# Altium footprint library Capacitors.PcbLib: 70 footprints (part 3 of 5)
Each footprint in its own frame and in the unit in brackets; x right, y up, seen from the top. Pads: shape width x height; smd on the part's side, far side on the other; paste and mask are expansions set on the pad; w line width, h text height; cw(c..) or ccw(c..) is an arc to the next point about the centre after c.
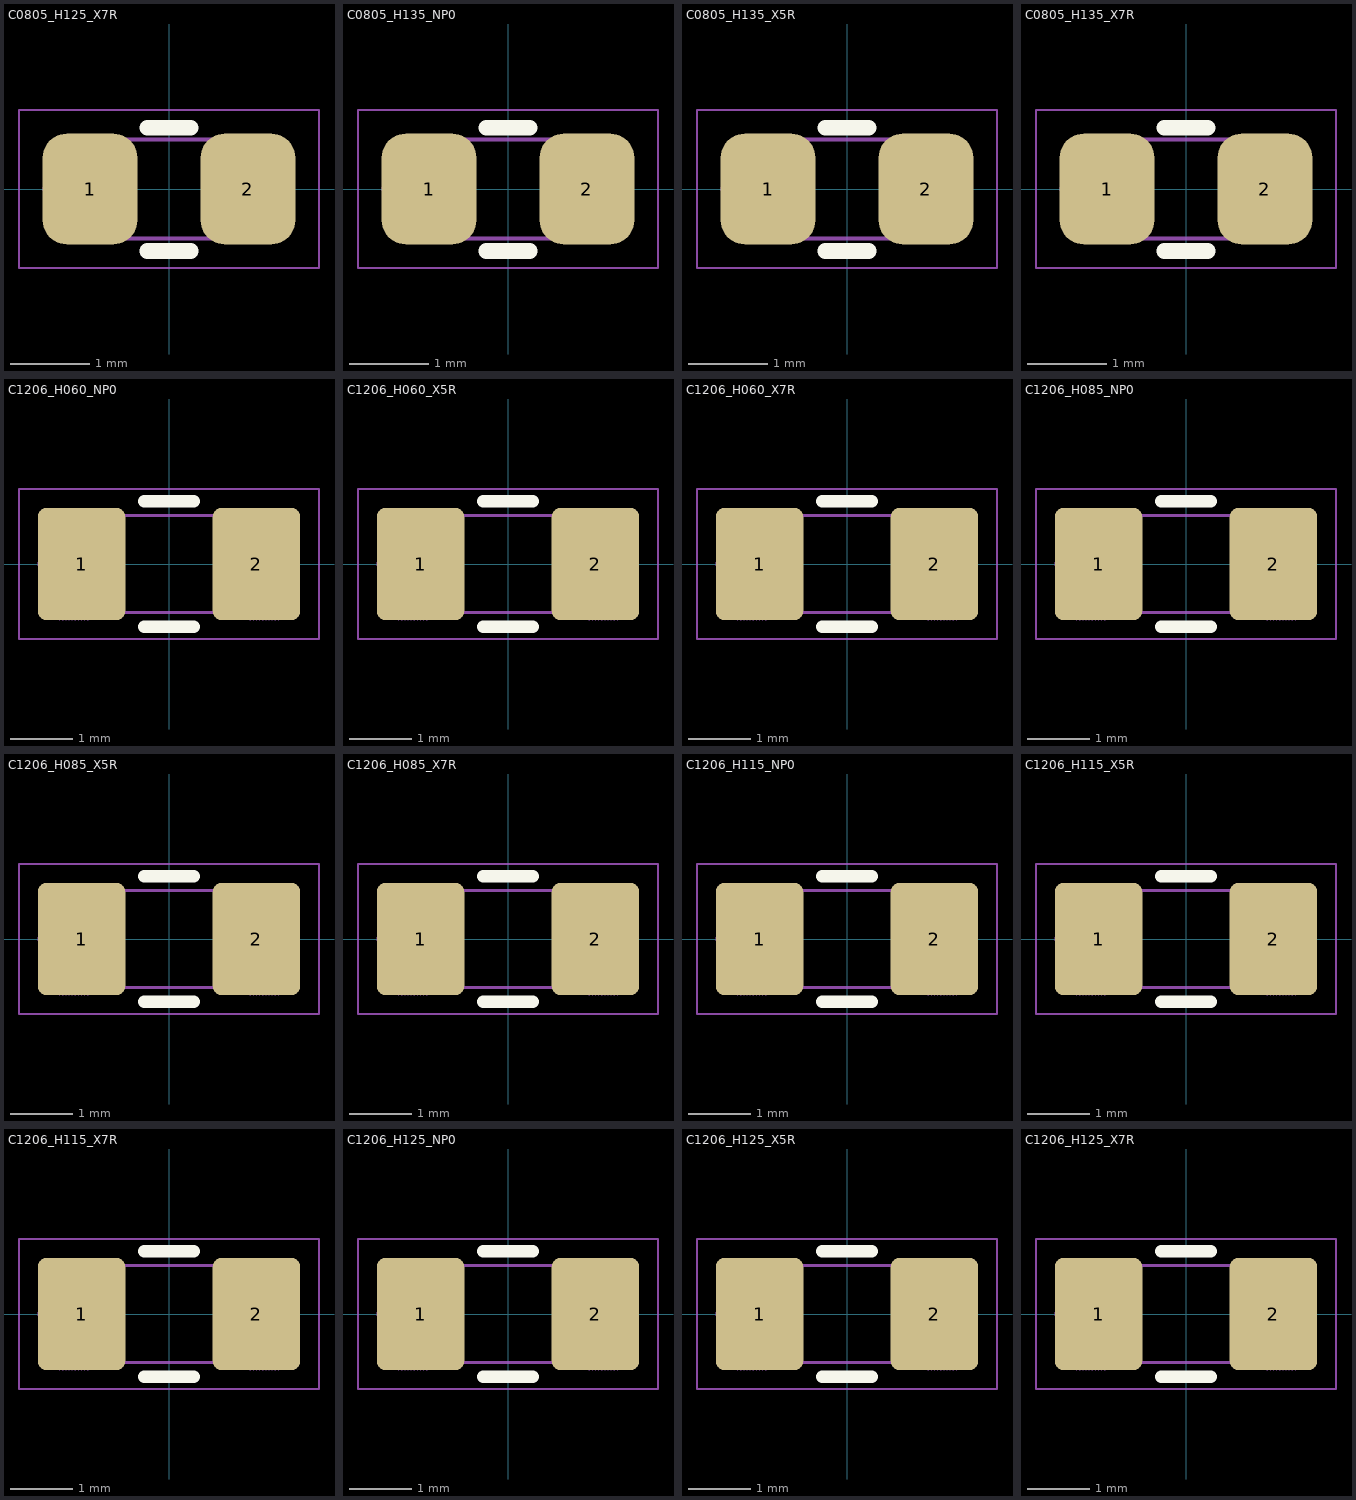
[diagram p2: the footprints below, top view; thin cyan lines are the x and y axes]

## C0805_H125_X7R [mm] "SMD080512X20MM"
height 1.25
pads (2):
  rrect50% 1.2x1.4 smd mask+0.05: 1(-1,0) 2(1,0)
Top Overlay:
  lines w0.2: -0.275,0.775 0.275,0.775 ; -0.275,-0.785 0.275,-0.785
Top Courtyard:
  lines w0.025: -1.9,-1 -1.9,1 1.9,1 1.9,-1 -1.9,-1
Top Assembly:
  lines w0.01: -1.59,-0.025 -1.59,0.025 ; 1.59,-0.025 1.59,0.025
  lines w0.05: -1.1,-0.65 -1.1,0.65 ; -1.05,-0.65 -1.05,0.65 ; -1,-0.65 -1,0.65 ; -0.95,-0.65 -0.95,0.65 ; -0.9,-0.65 -0.9,0.65 ; -0.85,-0.65 -0.85,0.65 ; -0.8,-0.65 -0.8,0.65 ; -0.75,-0.65 -0.75,0.65 ; -0.725,-0.624 cw(c-0.782,-0.605) -0.782,-0.665 -0.785,-0.665 -1.065,-0.665 cw(c-1.065,-0.605) -1.125,-0.605 -1.125,0.605 cw(c-1.065,0.605) -1.065,0.665 -0.785,0.665 -0.782,0.665 cw(c-0.782,0.605) -0.725,0.624 ; -0.725,0.565 -0.725,0.608 -0.725,0.625 ; 0.725,-0.565 0.725,-0.608 0.725,-0.625 ; 0.725,0.624 cw(c0.782,0.605) 0.782,0.665 0.785,0.665 1.065,0.665 cw(c1.065,0.605) 1.125,0.605 1.125,-0.605 cw(c1.065,-0.605) 1.065,-0.665 0.785,-0.665 0.782,-0.665 cw(c0.782,-0.605) 0.725,-0.624 ; 0.75,-0.65 0.75,0.65 ; 0.8,-0.65 0.8,0.65 ; 0.85,-0.65 0.85,0.65 ; 0.9,-0.65 0.9,0.65 ; 0.95,-0.65 0.95,0.65 ; 1,-0.65 1,0.65 ; 1.05,-0.65 1.05,0.65 ; 1.1,-0.65 1.1,0.65 ; -0.725,0.625 -0.725,-0.565 -0.725,-0.607 -0.725,-0.625 0.725,-0.624 ; -0.725,0.624 0.725,0.625 0.725,0.607 0.725,0.565 0.725,-0.625
  text ".Designator" at -2.252,-0.226 h1
3D body "C0805_H125_X7R.x_t": height 1.25, standoff 0, extent -1,-0.625 1,0.625

## C0805_H135_NP0 [mm] "SMD080512X20MM"
height 1.35
pads (2):
  rrect50% 1.2x1.4 smd mask+0.05: 1(-1,0) 2(1,0)
Top Overlay:
  lines w0.2: -0.275,0.775 0.275,0.775 ; -0.275,-0.785 0.275,-0.785
Top Courtyard:
  lines w0.025: -1.9,-1 -1.9,1 1.9,1 1.9,-1 -1.9,-1
Top Assembly:
  lines w0.01: -1.59,-0.025 -1.59,0.025 ; 1.59,-0.025 1.59,0.025
  lines w0.05: -1.1,-0.65 -1.1,0.65 ; -1.05,-0.65 -1.05,0.65 ; -1,-0.65 -1,0.65 ; -0.95,-0.65 -0.95,0.65 ; -0.9,-0.65 -0.9,0.65 ; -0.85,-0.65 -0.85,0.65 ; -0.8,-0.65 -0.8,0.65 ; -0.75,-0.65 -0.75,0.65 ; -0.725,-0.624 cw(c-0.782,-0.605) -0.782,-0.665 -0.785,-0.665 -1.065,-0.665 cw(c-1.065,-0.605) -1.125,-0.605 -1.125,0.605 cw(c-1.065,0.605) -1.065,0.665 -0.785,0.665 -0.782,0.665 cw(c-0.782,0.605) -0.725,0.624 ; -0.725,0.565 -0.725,0.608 -0.725,0.625 ; 0.725,-0.565 0.725,-0.608 0.725,-0.625 ; 0.725,0.624 cw(c0.782,0.605) 0.782,0.665 0.785,0.665 1.065,0.665 cw(c1.065,0.605) 1.125,0.605 1.125,-0.605 cw(c1.065,-0.605) 1.065,-0.665 0.785,-0.665 0.782,-0.665 cw(c0.782,-0.605) 0.725,-0.624 ; 0.75,-0.65 0.75,0.65 ; 0.8,-0.65 0.8,0.65 ; 0.85,-0.65 0.85,0.65 ; 0.9,-0.65 0.9,0.65 ; 0.95,-0.65 0.95,0.65 ; 1,-0.65 1,0.65 ; 1.05,-0.65 1.05,0.65 ; 1.1,-0.65 1.1,0.65 ; -0.725,0.624 0.725,0.625 0.725,0.607 0.725,0.565 0.725,-0.625 ; -0.725,0.625 -0.725,-0.565 -0.725,-0.607 -0.725,-0.625 0.725,-0.624
  text ".Designator" at -2.252,-0.226 h1
3D body "C0805_H135_NP0.x_t": height 1.35, standoff 0, extent -1,-0.625 1,0.625

## C0805_H135_X5R [mm] "SMD080512X20MM"
height 1.35
pads (2):
  rrect50% 1.2x1.4 smd mask+0.05: 1(-1,0) 2(1,0)
Top Overlay:
  lines w0.2: -0.275,0.775 0.275,0.775 ; -0.275,-0.785 0.275,-0.785
Top Courtyard:
  lines w0.025: -1.9,-1 1.9,-1 1.9,1 -1.9,1 -1.9,-1
Top Assembly:
  lines w0.01: -1.59,-0.025 -1.59,0.025 ; 1.59,-0.025 1.59,0.025
  lines w0.05: -1.1,-0.65 -1.1,0.65 ; -1.05,-0.65 -1.05,0.65 ; -1,-0.65 -1,0.65 ; -0.95,-0.65 -0.95,0.65 ; -0.9,-0.65 -0.9,0.65 ; -0.85,-0.65 -0.85,0.65 ; -0.8,-0.65 -0.8,0.65 ; -0.75,-0.65 -0.75,0.65 ; -0.725,-0.624 cw(c-0.782,-0.605) -0.782,-0.665 -0.785,-0.665 -1.065,-0.665 cw(c-1.065,-0.605) -1.125,-0.605 -1.125,0.605 cw(c-1.065,0.605) -1.065,0.665 -0.785,0.665 -0.782,0.665 cw(c-0.782,0.605) -0.725,0.624 ; -0.725,0.565 -0.725,0.608 -0.725,0.625 ; 0.725,-0.565 0.725,-0.608 0.725,-0.625 ; 0.725,0.624 cw(c0.782,0.605) 0.782,0.665 0.785,0.665 1.065,0.665 cw(c1.065,0.605) 1.125,0.605 1.125,-0.605 cw(c1.065,-0.605) 1.065,-0.665 0.785,-0.665 0.782,-0.665 cw(c0.782,-0.605) 0.725,-0.624 ; 0.75,-0.65 0.75,0.65 ; 0.8,-0.65 0.8,0.65 ; 0.85,-0.65 0.85,0.65 ; 0.9,-0.65 0.9,0.65 ; 0.95,-0.65 0.95,0.65 ; 1,-0.65 1,0.65 ; 1.05,-0.65 1.05,0.65 ; 1.1,-0.65 1.1,0.65 ; -0.725,0.625 -0.725,-0.565 -0.725,-0.607 -0.725,-0.625 0.725,-0.624 ; -0.725,0.624 0.725,0.625 0.725,0.607 0.725,0.565 0.725,-0.625
  text ".Designator" at -2.252,-0.226 h1
3D body "C0805_H135_X5R.x_t": height 1.35, standoff 0, extent -1,-0.625 1,0.625

## C0805_H135_X7R [mm] "SMD080512X20MM"
height 1.35
pads (2):
  rrect50% 1.2x1.4 smd mask+0.05: 1(-1,0) 2(1,0)
Top Overlay:
  lines w0.2: -0.275,0.775 0.275,0.775 ; -0.275,-0.785 0.275,-0.785
Top Courtyard:
  lines w0.025: -1.9,-1 -1.9,1 1.9,1 1.9,-1 -1.9,-1
Top Assembly:
  lines w0.01: -1.59,-0.025 -1.59,0.025 ; 1.59,-0.025 1.59,0.025
  lines w0.05: -1.1,-0.65 -1.1,0.65 ; -1.05,-0.65 -1.05,0.65 ; -1,-0.65 -1,0.65 ; -0.95,-0.65 -0.95,0.65 ; -0.9,-0.65 -0.9,0.65 ; -0.85,-0.65 -0.85,0.65 ; -0.8,-0.65 -0.8,0.65 ; -0.75,-0.65 -0.75,0.65 ; -0.725,-0.624 cw(c-0.782,-0.605) -0.782,-0.665 -0.785,-0.665 -1.065,-0.665 cw(c-1.065,-0.605) -1.125,-0.605 -1.125,0.605 cw(c-1.065,0.605) -1.065,0.665 -0.785,0.665 -0.782,0.665 cw(c-0.782,0.605) -0.725,0.624 ; -0.725,0.565 -0.725,0.608 -0.725,0.625 ; 0.725,-0.565 0.725,-0.608 0.725,-0.625 ; 0.725,0.624 cw(c0.782,0.605) 0.782,0.665 0.785,0.665 1.065,0.665 cw(c1.065,0.605) 1.125,0.605 1.125,-0.605 cw(c1.065,-0.605) 1.065,-0.665 0.785,-0.665 0.782,-0.665 cw(c0.782,-0.605) 0.725,-0.624 ; 0.75,-0.65 0.75,0.65 ; 0.8,-0.65 0.8,0.65 ; 0.85,-0.65 0.85,0.65 ; 0.9,-0.65 0.9,0.65 ; 0.95,-0.65 0.95,0.65 ; 1,-0.65 1,0.65 ; 1.05,-0.65 1.05,0.65 ; 1.1,-0.65 1.1,0.65 ; -0.725,0.625 -0.725,-0.565 -0.725,-0.607 -0.725,-0.625 0.725,-0.624 ; -0.725,0.624 0.725,0.625 0.725,0.607 0.725,0.565 0.725,-0.625
  text ".Designator" at -2.252,-0.226 h1
3D body "C0805_H135_X7R.x_t": height 1.35, standoff 0, extent -1,-0.625 1,0.625

## C1206_H060_NP0 [mm] "SMD120632X16MM"
height 0.6
pads (2):
  rrect20% 1.4x1.8 smd paste-3 mask+0.05: 1(-1.4,0) 2(1.4,0)
Top Overlay:
  lines w0.2: -0.4,-1 0.4,-1 ; -0.4,1 0.4,1
Top Paste:
  drawing of 8 lines, arcs and shapes, not listed
Top Courtyard:
  lines w0.025: -2.4,-1.2 -2.4,1.2 2.4,1.2 2.4,-1.2 -2.4,-1.2
Top Assembly:
  lines w0.01: -2.095,-0.025 -2.095,0.025 ; 2.095,-0.025 2.095,0.025
  lines w0.05: -1.8,-0.825 -1.8,0.825 ; -1.7,-0.875 -1.7,0.875 ; -1.65,-0.875 -1.65,0.875 ; -1.6,-0.875 -1.6,0.875 ; -1.55,-0.875 -1.55,0.875 ; -1.5,-0.875 -1.5,0.875 ; -1.45,-0.875 -1.45,0.875 ; -1.4,-0.875 -1.4,0.875 ; -1.35,-0.875 -1.35,0.875 ; -1.25,-0.825 -1.25,0.825 ; 1.25,-0.825 1.25,0.825 ; 1.35,-0.875 1.35,0.875 ; 1.4,-0.875 1.4,0.875 ; 1.45,-0.875 1.45,0.875 ; 1.5,-0.875 1.5,0.875 ; 1.55,-0.875 1.55,0.875 ; 1.6,-0.875 1.6,0.875 ; 1.65,-0.875 1.65,0.875 ; 1.7,-0.875 1.7,0.875 ; 1.8,-0.825 1.8,0.825 ; -1.85,-0.775 ccw(c-1.85,-0.775) -1.85,-0.775 ; -1.85,-0.775 ccw(c-1.75,-0.775) -1.75,-0.875 ; -1.85,-0.775 -1.85,0.775 ; -1.85,0.775 ccw(c-1.85,0.775) -1.85,0.775 ; -1.85,0.775 cw(c-1.75,0.775) -1.75,0.875 ; -1.75,-0.875 -1.75,0.875 ; -1.75,-0.875 -1.3,-0.875 ; -1.75,0.875 -1.3,0.875 ; -1.3,-0.875 ccw(c-1.3,-0.775) -1.2,-0.775 ; -1.3,-0.875 -1.3,0.875 ; -1.3,0.875 cw(c-1.3,0.775) -1.2,0.775 ; -1.2,-0.775 1.2,-0.775 ; -1.2,-0.775 -1.2,0.775 ; -1.2,0.775 1.2,0.775 ; 1.2,-0.775 ccw(c1.3,-0.775) 1.3,-0.875 ; 1.2,-0.775 1.2,0.775 ; 1.2,0.775 cw(c1.3,0.775) 1.3,0.875 ; 1.3,-0.875 1.3,0.875 ; 1.3,-0.875 1.75,-0.875 ; 1.3,-0.875 1.75,-0.875 ; 1.3,0.875 1.75,0.875 ; 1.3,0.875 1.75,0.875 ; 1.75,-0.875 ccw(c1.75,-0.775) 1.85,-0.775 ; 1.75,-0.875 1.75,0.875 ; 1.75,0.875 cw(c1.75,0.775) 1.85,0.775 ; 1.85,-0.775 ccw(c1.85,-0.775) 1.85,-0.775 ; 1.85,-0.775 1.85,0.775 ; 1.85,0.775 ccw(c1.85,0.775) 1.85,0.775 ; 0.45,0.775 ccw(c0.45,0.775) 0.45,0.775
  text ".Designator" at -3.378,-0.339 h1.5
3D body "C1206_H060_NP0.x_t": height 0.6, standoff 0, extent -1.6,-0.8 1.6,0.8

## C1206_H060_X5R [mm] "SMD120632X16MM"
height 0.6
pads (2):
  rrect20% 1.4x1.8 smd paste-3 mask+0.05: 1(-1.4,0) 2(1.4,0)
Top Overlay:
  lines w0.2: -0.4,-1 0.4,-1 ; -0.4,1 0.4,1
Top Paste:
  drawing of 8 lines, arcs and shapes, not listed
Top Courtyard:
  lines w0.025: -2.4,-1.2 -2.4,1.2 2.4,1.2 2.4,-1.2 -2.4,-1.2
Top Assembly:
  lines w0.01: -2.095,-0.025 -2.095,0.025 ; 2.095,-0.025 2.095,0.025
  lines w0.05: -1.8,-0.825 -1.8,0.825 ; -1.7,-0.875 -1.7,0.875 ; -1.65,-0.875 -1.65,0.875 ; -1.6,-0.875 -1.6,0.875 ; -1.55,-0.875 -1.55,0.875 ; -1.5,-0.875 -1.5,0.875 ; -1.45,-0.875 -1.45,0.875 ; -1.4,-0.875 -1.4,0.875 ; -1.35,-0.875 -1.35,0.875 ; -1.25,-0.825 -1.25,0.825 ; 1.25,-0.825 1.25,0.825 ; 1.35,-0.875 1.35,0.875 ; 1.4,-0.875 1.4,0.875 ; 1.45,-0.875 1.45,0.875 ; 1.5,-0.875 1.5,0.875 ; 1.55,-0.875 1.55,0.875 ; 1.6,-0.875 1.6,0.875 ; 1.65,-0.875 1.65,0.875 ; 1.7,-0.875 1.7,0.875 ; 1.8,-0.825 1.8,0.825 ; -1.85,-0.775 ccw(c-1.85,-0.775) -1.85,-0.775 ; -1.85,-0.775 ccw(c-1.75,-0.775) -1.75,-0.875 ; -1.85,-0.775 -1.85,0.775 ; -1.85,0.775 ccw(c-1.85,0.775) -1.85,0.775 ; -1.85,0.775 cw(c-1.75,0.775) -1.75,0.875 ; -1.75,-0.875 -1.75,0.875 ; -1.75,-0.875 -1.3,-0.875 ; -1.75,0.875 -1.3,0.875 ; -1.3,-0.875 ccw(c-1.3,-0.775) -1.2,-0.775 ; -1.3,-0.875 -1.3,0.875 ; -1.3,0.875 cw(c-1.3,0.775) -1.2,0.775 ; -1.2,-0.775 1.2,-0.775 ; -1.2,-0.775 -1.2,0.775 ; -1.2,0.775 1.2,0.775 ; 1.2,-0.775 ccw(c1.3,-0.775) 1.3,-0.875 ; 1.2,-0.775 1.2,0.775 ; 1.2,0.775 cw(c1.3,0.775) 1.3,0.875 ; 1.3,-0.875 1.3,0.875 ; 1.3,-0.875 1.75,-0.875 ; 1.3,-0.875 1.75,-0.875 ; 1.3,0.875 1.75,0.875 ; 1.3,0.875 1.75,0.875 ; 1.75,-0.875 ccw(c1.75,-0.775) 1.85,-0.775 ; 1.75,-0.875 1.75,0.875 ; 1.75,0.875 cw(c1.75,0.775) 1.85,0.775 ; 1.85,-0.775 ccw(c1.85,-0.775) 1.85,-0.775 ; 1.85,-0.775 1.85,0.775 ; 1.85,0.775 ccw(c1.85,0.775) 1.85,0.775 ; 0.45,0.775 ccw(c0.45,0.775) 0.45,0.775
  text ".Designator" at -3.378,-0.339 h1.5
3D body "C1206_H060_X5R.x_t": height 0.6, standoff 0, extent -1.6,-0.8 1.6,0.8

## C1206_H060_X7R [mm] "SMD120632X16MM"
height 0.6
pads (2):
  rrect20% 1.4x1.8 smd paste-3 mask+0.05: 1(-1.4,0) 2(1.4,0)
Top Overlay:
  lines w0.2: -0.4,-1 0.4,-1 ; -0.4,1 0.4,1
Top Paste:
  drawing of 8 lines, arcs and shapes, not listed
Top Courtyard:
  lines w0.025: -2.4,-1.2 -2.4,1.2 2.4,1.2 2.4,-1.2 -2.4,-1.2
Top Assembly:
  lines w0.01: -2.095,-0.025 -2.095,0.025 ; 2.095,-0.025 2.095,0.025
  lines w0.05: -1.8,-0.825 -1.8,0.825 ; -1.7,-0.875 -1.7,0.875 ; -1.65,-0.875 -1.65,0.875 ; -1.6,-0.875 -1.6,0.875 ; -1.55,-0.875 -1.55,0.875 ; -1.5,-0.875 -1.5,0.875 ; -1.45,-0.875 -1.45,0.875 ; -1.4,-0.875 -1.4,0.875 ; -1.35,-0.875 -1.35,0.875 ; -1.25,-0.825 -1.25,0.825 ; 1.25,-0.825 1.25,0.825 ; 1.35,-0.875 1.35,0.875 ; 1.4,-0.875 1.4,0.875 ; 1.45,-0.875 1.45,0.875 ; 1.5,-0.875 1.5,0.875 ; 1.55,-0.875 1.55,0.875 ; 1.6,-0.875 1.6,0.875 ; 1.65,-0.875 1.65,0.875 ; 1.7,-0.875 1.7,0.875 ; 1.8,-0.825 1.8,0.825 ; -1.85,-0.775 ccw(c-1.85,-0.775) -1.85,-0.775 ; -1.85,-0.775 ccw(c-1.75,-0.775) -1.75,-0.875 ; -1.85,-0.775 -1.85,0.775 ; -1.85,0.775 ccw(c-1.85,0.775) -1.85,0.775 ; -1.85,0.775 cw(c-1.75,0.775) -1.75,0.875 ; -1.75,-0.875 -1.75,0.875 ; -1.75,-0.875 -1.3,-0.875 ; -1.75,0.875 -1.3,0.875 ; -1.3,-0.875 ccw(c-1.3,-0.775) -1.2,-0.775 ; -1.3,-0.875 -1.3,0.875 ; -1.3,0.875 cw(c-1.3,0.775) -1.2,0.775 ; -1.2,-0.775 1.2,-0.775 ; -1.2,-0.775 -1.2,0.775 ; -1.2,0.775 1.2,0.775 ; 1.2,-0.775 ccw(c1.3,-0.775) 1.3,-0.875 ; 1.2,-0.775 1.2,0.775 ; 1.2,0.775 cw(c1.3,0.775) 1.3,0.875 ; 1.3,-0.875 1.3,0.875 ; 1.3,-0.875 1.75,-0.875 ; 1.3,-0.875 1.75,-0.875 ; 1.3,0.875 1.75,0.875 ; 1.3,0.875 1.75,0.875 ; 1.75,-0.875 ccw(c1.75,-0.775) 1.85,-0.775 ; 1.75,-0.875 1.75,0.875 ; 1.75,0.875 cw(c1.75,0.775) 1.85,0.775 ; 1.85,-0.775 ccw(c1.85,-0.775) 1.85,-0.775 ; 1.85,-0.775 1.85,0.775 ; 1.85,0.775 ccw(c1.85,0.775) 1.85,0.775 ; 0.45,0.775 ccw(c0.45,0.775) 0.45,0.775
  text ".Designator" at -3.378,-0.339 h1.5
3D body "C1206_H060_X7R.x_t": height 0.6, standoff 0, extent -1.6,-0.8 1.6,0.8

## C1206_H085_NP0 [mm] "SMD120632X16MM"
height 0.85
pads (2):
  rrect20% 1.4x1.8 smd paste-3 mask+0.05: 1(-1.4,0) 2(1.4,0)
Top Overlay:
  lines w0.2: -0.4,-1 0.4,-1 ; -0.4,1 0.4,1
Top Paste:
  drawing of 8 lines, arcs and shapes, not listed
Top Courtyard:
  lines w0.025: -2.4,-1.2 2.4,-1.2 2.4,1.2 -2.4,1.2 -2.4,-1.2
Top Assembly:
  lines w0.01: -2.095,-0.025 -2.095,0.025 ; 2.095,-0.025 2.095,0.025
  lines w0.05: -1.8,-0.825 -1.8,0.825 ; -1.7,-0.875 -1.7,0.875 ; -1.65,-0.875 -1.65,0.875 ; -1.6,-0.875 -1.6,0.875 ; -1.55,-0.875 -1.55,0.875 ; -1.5,-0.875 -1.5,0.875 ; -1.45,-0.875 -1.45,0.875 ; -1.4,-0.875 -1.4,0.875 ; -1.35,-0.875 -1.35,0.875 ; -1.25,-0.825 -1.25,0.825 ; 1.25,-0.825 1.25,0.825 ; 1.35,-0.875 1.35,0.875 ; 1.4,-0.875 1.4,0.875 ; 1.45,-0.875 1.45,0.875 ; 1.5,-0.875 1.5,0.875 ; 1.55,-0.875 1.55,0.875 ; 1.6,-0.875 1.6,0.875 ; 1.65,-0.875 1.65,0.875 ; 1.7,-0.875 1.7,0.875 ; 1.8,-0.825 1.8,0.825 ; -1.85,-0.775 ccw(c-1.75,-0.775) -1.75,-0.875 ; -1.85,-0.775 ccw(c-1.85,-0.775) -1.85,-0.775 ; -1.85,-0.775 -1.85,0.775 ; -1.85,0.775 cw(c-1.75,0.775) -1.75,0.875 ; -1.85,0.775 ccw(c-1.85,0.775) -1.85,0.775 ; -1.75,-0.875 -1.3,-0.875 ; -1.75,-0.875 -1.75,0.875 ; -1.75,0.875 -1.3,0.875 ; -1.3,-0.875 ccw(c-1.3,-0.775) -1.2,-0.775 ; -1.3,-0.875 -1.3,0.875 ; -1.3,0.875 cw(c-1.3,0.775) -1.2,0.775 ; -1.2,-0.775 -1.2,0.775 ; -1.2,-0.775 1.2,-0.775 ; -1.2,0.775 1.2,0.775 ; 1.2,-0.775 ccw(c1.3,-0.775) 1.3,-0.875 ; 1.2,-0.775 1.2,0.775 ; 1.2,0.775 cw(c1.3,0.775) 1.3,0.875 ; 1.3,-0.875 1.75,-0.875 ; 1.3,-0.875 1.75,-0.875 ; 1.3,-0.875 1.3,0.875 ; 1.3,0.875 1.75,0.875 ; 1.3,0.875 1.75,0.875 ; 1.75,-0.875 ccw(c1.75,-0.775) 1.85,-0.775 ; 1.75,-0.875 1.75,0.875 ; 1.75,0.875 cw(c1.75,0.775) 1.85,0.775 ; 1.85,-0.775 ccw(c1.85,-0.775) 1.85,-0.775 ; 1.85,-0.775 1.85,0.775 ; 1.85,0.775 ccw(c1.85,0.775) 1.85,0.775 ; 0.45,0.775 ccw(c0.45,0.775) 0.45,0.775
  text ".Designator" at -3.378,-0.339 h1.5
3D body "C1206_H085_NP0.x_t": height 0.85, standoff 0, extent -1.6,-0.8 1.6,0.8

## C1206_H085_X5R [mm] "SMD120632X16MM"
height 0.85
pads (2):
  rrect20% 1.4x1.8 smd paste-3 mask+0.05: 1(-1.4,0) 2(1.4,0)
Top Overlay:
  lines w0.2: -0.4,-1 0.4,-1 ; -0.4,1 0.4,1
Top Paste:
  drawing of 8 lines, arcs and shapes, not listed
Top Courtyard:
  lines w0.025: -2.4,-1.2 -2.4,1.2 2.4,1.2 2.4,-1.2 -2.4,-1.2
Top Assembly:
  lines w0.01: -2.095,-0.025 -2.095,0.025 ; 2.095,-0.025 2.095,0.025
  lines w0.05: -1.8,-0.825 -1.8,0.825 ; -1.7,-0.875 -1.7,0.875 ; -1.65,-0.875 -1.65,0.875 ; -1.6,-0.875 -1.6,0.875 ; -1.55,-0.875 -1.55,0.875 ; -1.5,-0.875 -1.5,0.875 ; -1.45,-0.875 -1.45,0.875 ; -1.4,-0.875 -1.4,0.875 ; -1.35,-0.875 -1.35,0.875 ; -1.25,-0.825 -1.25,0.825 ; 1.25,-0.825 1.25,0.825 ; 1.35,-0.875 1.35,0.875 ; 1.4,-0.875 1.4,0.875 ; 1.45,-0.875 1.45,0.875 ; 1.5,-0.875 1.5,0.875 ; 1.55,-0.875 1.55,0.875 ; 1.6,-0.875 1.6,0.875 ; 1.65,-0.875 1.65,0.875 ; 1.7,-0.875 1.7,0.875 ; 1.8,-0.825 1.8,0.825 ; -1.85,-0.775 ccw(c-1.85,-0.775) -1.85,-0.775 ; -1.85,-0.775 ccw(c-1.75,-0.775) -1.75,-0.875 ; -1.85,-0.775 -1.85,0.775 ; -1.85,0.775 ccw(c-1.85,0.775) -1.85,0.775 ; -1.85,0.775 cw(c-1.75,0.775) -1.75,0.875 ; -1.75,-0.875 -1.75,0.875 ; -1.75,-0.875 -1.3,-0.875 ; -1.75,0.875 -1.3,0.875 ; -1.3,-0.875 ccw(c-1.3,-0.775) -1.2,-0.775 ; -1.3,-0.875 -1.3,0.875 ; -1.3,0.875 cw(c-1.3,0.775) -1.2,0.775 ; -1.2,-0.775 1.2,-0.775 ; -1.2,-0.775 -1.2,0.775 ; -1.2,0.775 1.2,0.775 ; 1.2,-0.775 ccw(c1.3,-0.775) 1.3,-0.875 ; 1.2,-0.775 1.2,0.775 ; 1.2,0.775 cw(c1.3,0.775) 1.3,0.875 ; 1.3,-0.875 1.3,0.875 ; 1.3,-0.875 1.75,-0.875 ; 1.3,-0.875 1.75,-0.875 ; 1.3,0.875 1.75,0.875 ; 1.3,0.875 1.75,0.875 ; 1.75,-0.875 ccw(c1.75,-0.775) 1.85,-0.775 ; 1.75,-0.875 1.75,0.875 ; 1.75,0.875 cw(c1.75,0.775) 1.85,0.775 ; 1.85,-0.775 ccw(c1.85,-0.775) 1.85,-0.775 ; 1.85,-0.775 1.85,0.775 ; 1.85,0.775 ccw(c1.85,0.775) 1.85,0.775 ; 0.45,0.775 ccw(c0.45,0.775) 0.45,0.775
  text ".Designator" at -3.378,-0.339 h1.5
3D body "C1206_H085_X5R.x_t": height 0.85, standoff 0, extent -1.6,-0.8 1.6,0.8

## C1206_H085_X7R [mm] "SMD120632X16MM"
height 0.85
pads (2):
  rrect20% 1.4x1.8 smd paste-3 mask+0.05: 1(-1.4,0) 2(1.4,0)
Top Overlay:
  lines w0.2: -0.4,-1 0.4,-1 ; -0.4,1 0.4,1
Top Paste:
  drawing of 8 lines, arcs and shapes, not listed
Top Courtyard:
  lines w0.025: -2.4,-1.2 -2.4,1.2 2.4,1.2 2.4,-1.2 -2.4,-1.2
Top Assembly:
  lines w0.01: -2.095,-0.025 -2.095,0.025 ; 2.095,-0.025 2.095,0.025
  lines w0.05: -1.8,-0.825 -1.8,0.825 ; -1.7,-0.875 -1.7,0.875 ; -1.65,-0.875 -1.65,0.875 ; -1.6,-0.875 -1.6,0.875 ; -1.55,-0.875 -1.55,0.875 ; -1.5,-0.875 -1.5,0.875 ; -1.45,-0.875 -1.45,0.875 ; -1.4,-0.875 -1.4,0.875 ; -1.35,-0.875 -1.35,0.875 ; -1.25,-0.825 -1.25,0.825 ; 1.25,-0.825 1.25,0.825 ; 1.35,-0.875 1.35,0.875 ; 1.4,-0.875 1.4,0.875 ; 1.45,-0.875 1.45,0.875 ; 1.5,-0.875 1.5,0.875 ; 1.55,-0.875 1.55,0.875 ; 1.6,-0.875 1.6,0.875 ; 1.65,-0.875 1.65,0.875 ; 1.7,-0.875 1.7,0.875 ; 1.8,-0.825 1.8,0.825 ; -1.85,-0.775 ccw(c-1.85,-0.775) -1.85,-0.775 ; -1.85,-0.775 ccw(c-1.75,-0.775) -1.75,-0.875 ; -1.85,-0.775 -1.85,0.775 ; -1.85,0.775 ccw(c-1.85,0.775) -1.85,0.775 ; -1.85,0.775 cw(c-1.75,0.775) -1.75,0.875 ; -1.75,-0.875 -1.75,0.875 ; -1.75,-0.875 -1.3,-0.875 ; -1.75,0.875 -1.3,0.875 ; -1.3,-0.875 ccw(c-1.3,-0.775) -1.2,-0.775 ; -1.3,-0.875 -1.3,0.875 ; -1.3,0.875 cw(c-1.3,0.775) -1.2,0.775 ; -1.2,-0.775 1.2,-0.775 ; -1.2,-0.775 -1.2,0.775 ; -1.2,0.775 1.2,0.775 ; 1.2,-0.775 ccw(c1.3,-0.775) 1.3,-0.875 ; 1.2,-0.775 1.2,0.775 ; 1.2,0.775 cw(c1.3,0.775) 1.3,0.875 ; 1.3,-0.875 1.3,0.875 ; 1.3,-0.875 1.75,-0.875 ; 1.3,-0.875 1.75,-0.875 ; 1.3,0.875 1.75,0.875 ; 1.3,0.875 1.75,0.875 ; 1.75,-0.875 ccw(c1.75,-0.775) 1.85,-0.775 ; 1.75,-0.875 1.75,0.875 ; 1.75,0.875 cw(c1.75,0.775) 1.85,0.775 ; 1.85,-0.775 ccw(c1.85,-0.775) 1.85,-0.775 ; 1.85,-0.775 1.85,0.775 ; 1.85,0.775 ccw(c1.85,0.775) 1.85,0.775 ; 0.45,0.775 ccw(c0.45,0.775) 0.45,0.775
  text ".Designator" at -3.378,-0.339 h1.5
3D body "C1206_H085_X7R.x_t": height 0.85, standoff 0, extent -1.6,-0.8 1.6,0.8

## C1206_H115_NP0 [mm] "SMD120632X16MM"
height 1.15
pads (2):
  rrect20% 1.4x1.8 smd paste-3 mask+0.05: 1(-1.4,0) 2(1.4,0)
Top Overlay:
  lines w0.2: -0.4,-1 0.4,-1 ; -0.4,1 0.4,1
Top Paste:
  drawing of 8 lines, arcs and shapes, not listed
Top Courtyard:
  lines w0.025: -2.4,-1.2 -2.4,1.2 2.4,1.2 2.4,-1.2 -2.4,-1.2
Top Assembly:
  lines w0.01: -2.095,-0.025 -2.095,0.025 ; 2.095,-0.025 2.095,0.025
  lines w0.05: -1.8,-0.825 -1.8,0.825 ; -1.7,-0.875 -1.7,0.875 ; -1.65,-0.875 -1.65,0.875 ; -1.6,-0.875 -1.6,0.875 ; -1.55,-0.875 -1.55,0.875 ; -1.5,-0.875 -1.5,0.875 ; -1.45,-0.875 -1.45,0.875 ; -1.4,-0.875 -1.4,0.875 ; -1.35,-0.875 -1.35,0.875 ; -1.25,-0.825 -1.25,0.825 ; 1.25,-0.825 1.25,0.825 ; 1.35,-0.875 1.35,0.875 ; 1.4,-0.875 1.4,0.875 ; 1.45,-0.875 1.45,0.875 ; 1.5,-0.875 1.5,0.875 ; 1.55,-0.875 1.55,0.875 ; 1.6,-0.875 1.6,0.875 ; 1.65,-0.875 1.65,0.875 ; 1.7,-0.875 1.7,0.875 ; 1.8,-0.825 1.8,0.825 ; -1.85,-0.775 ccw(c-1.85,-0.775) -1.85,-0.775 ; -1.85,-0.775 ccw(c-1.75,-0.775) -1.75,-0.875 ; -1.85,-0.775 -1.85,0.775 ; -1.85,0.775 ccw(c-1.85,0.775) -1.85,0.775 ; -1.85,0.775 cw(c-1.75,0.775) -1.75,0.875 ; -1.75,-0.875 -1.75,0.875 ; -1.75,-0.875 -1.3,-0.875 ; -1.75,0.875 -1.3,0.875 ; -1.3,-0.875 ccw(c-1.3,-0.775) -1.2,-0.775 ; -1.3,-0.875 -1.3,0.875 ; -1.3,0.875 cw(c-1.3,0.775) -1.2,0.775 ; -1.2,-0.775 1.2,-0.775 ; -1.2,-0.775 -1.2,0.775 ; -1.2,0.775 1.2,0.775 ; 1.2,-0.775 ccw(c1.3,-0.775) 1.3,-0.875 ; 1.2,-0.775 1.2,0.775 ; 1.2,0.775 cw(c1.3,0.775) 1.3,0.875 ; 1.3,-0.875 1.3,0.875 ; 1.3,-0.875 1.75,-0.875 ; 1.3,-0.875 1.75,-0.875 ; 1.3,0.875 1.75,0.875 ; 1.3,0.875 1.75,0.875 ; 1.75,-0.875 ccw(c1.75,-0.775) 1.85,-0.775 ; 1.75,-0.875 1.75,0.875 ; 1.75,0.875 cw(c1.75,0.775) 1.85,0.775 ; 1.85,-0.775 ccw(c1.85,-0.775) 1.85,-0.775 ; 1.85,-0.775 1.85,0.775 ; 1.85,0.775 ccw(c1.85,0.775) 1.85,0.775 ; 0.45,0.775 ccw(c0.45,0.775) 0.45,0.775
  text ".Designator" at -3.378,-0.339 h1.5
3D body "C1206_H115_NP0.x_t": height 1.15, standoff 0, extent -1.6,-0.8 1.6,0.8

## C1206_H115_X5R [mm] "SMD120632X16MM"
height 1.15
pads (2):
  rrect20% 1.4x1.8 smd paste-3 mask+0.05: 1(-1.4,0) 2(1.4,0)
Top Overlay:
  lines w0.2: -0.4,-1 0.4,-1 ; -0.4,1 0.4,1
Top Paste:
  drawing of 8 lines, arcs and shapes, not listed
Top Courtyard:
  lines w0.025: -2.4,-1.2 -2.4,1.2 2.4,1.2 2.4,-1.2 -2.4,-1.2
Top Assembly:
  lines w0.01: -2.095,-0.025 -2.095,0.025 ; 2.095,-0.025 2.095,0.025
  lines w0.05: -1.8,-0.825 -1.8,0.825 ; -1.7,-0.875 -1.7,0.875 ; -1.65,-0.875 -1.65,0.875 ; -1.6,-0.875 -1.6,0.875 ; -1.55,-0.875 -1.55,0.875 ; -1.5,-0.875 -1.5,0.875 ; -1.45,-0.875 -1.45,0.875 ; -1.4,-0.875 -1.4,0.875 ; -1.35,-0.875 -1.35,0.875 ; -1.25,-0.825 -1.25,0.825 ; 1.25,-0.825 1.25,0.825 ; 1.35,-0.875 1.35,0.875 ; 1.4,-0.875 1.4,0.875 ; 1.45,-0.875 1.45,0.875 ; 1.5,-0.875 1.5,0.875 ; 1.55,-0.875 1.55,0.875 ; 1.6,-0.875 1.6,0.875 ; 1.65,-0.875 1.65,0.875 ; 1.7,-0.875 1.7,0.875 ; 1.8,-0.825 1.8,0.825 ; -1.85,-0.775 ccw(c-1.85,-0.775) -1.85,-0.775 ; -1.85,-0.775 ccw(c-1.75,-0.775) -1.75,-0.875 ; -1.85,-0.775 -1.85,0.775 ; -1.85,0.775 ccw(c-1.85,0.775) -1.85,0.775 ; -1.85,0.775 cw(c-1.75,0.775) -1.75,0.875 ; -1.75,-0.875 -1.75,0.875 ; -1.75,-0.875 -1.3,-0.875 ; -1.75,0.875 -1.3,0.875 ; -1.3,-0.875 ccw(c-1.3,-0.775) -1.2,-0.775 ; -1.3,-0.875 -1.3,0.875 ; -1.3,0.875 cw(c-1.3,0.775) -1.2,0.775 ; -1.2,-0.775 1.2,-0.775 ; -1.2,-0.775 -1.2,0.775 ; -1.2,0.775 1.2,0.775 ; 1.2,-0.775 ccw(c1.3,-0.775) 1.3,-0.875 ; 1.2,-0.775 1.2,0.775 ; 1.2,0.775 cw(c1.3,0.775) 1.3,0.875 ; 1.3,-0.875 1.3,0.875 ; 1.3,-0.875 1.75,-0.875 ; 1.3,-0.875 1.75,-0.875 ; 1.3,0.875 1.75,0.875 ; 1.3,0.875 1.75,0.875 ; 1.75,-0.875 ccw(c1.75,-0.775) 1.85,-0.775 ; 1.75,-0.875 1.75,0.875 ; 1.75,0.875 cw(c1.75,0.775) 1.85,0.775 ; 1.85,-0.775 ccw(c1.85,-0.775) 1.85,-0.775 ; 1.85,-0.775 1.85,0.775 ; 1.85,0.775 ccw(c1.85,0.775) 1.85,0.775 ; 0.45,0.775 ccw(c0.45,0.775) 0.45,0.775
  text ".Designator" at -3.378,-0.339 h1.5
3D body "C1206_H115_X5R.x_t": height 1.15, standoff 0, extent -1.6,-0.8 1.6,0.8

## C1206_H115_X7R [mm] "SMD120632X16MM"
height 1.15
pads (2):
  rrect20% 1.4x1.8 smd paste-3 mask+0.05: 1(-1.4,0) 2(1.4,0)
Top Overlay:
  lines w0.2: -0.4,-1 0.4,-1 ; -0.4,1 0.4,1
Top Paste:
  drawing of 8 lines, arcs and shapes, not listed
Top Courtyard:
  lines w0.025: -2.4,-1.2 -2.4,1.2 2.4,1.2 2.4,-1.2 -2.4,-1.2
Top Assembly:
  lines w0.01: -2.095,-0.025 -2.095,0.025 ; 2.095,-0.025 2.095,0.025
  lines w0.05: -1.8,-0.825 -1.8,0.825 ; -1.7,-0.875 -1.7,0.875 ; -1.65,-0.875 -1.65,0.875 ; -1.6,-0.875 -1.6,0.875 ; -1.55,-0.875 -1.55,0.875 ; -1.5,-0.875 -1.5,0.875 ; -1.45,-0.875 -1.45,0.875 ; -1.4,-0.875 -1.4,0.875 ; -1.35,-0.875 -1.35,0.875 ; -1.25,-0.825 -1.25,0.825 ; 1.25,-0.825 1.25,0.825 ; 1.35,-0.875 1.35,0.875 ; 1.4,-0.875 1.4,0.875 ; 1.45,-0.875 1.45,0.875 ; 1.5,-0.875 1.5,0.875 ; 1.55,-0.875 1.55,0.875 ; 1.6,-0.875 1.6,0.875 ; 1.65,-0.875 1.65,0.875 ; 1.7,-0.875 1.7,0.875 ; 1.8,-0.825 1.8,0.825 ; -1.85,-0.775 ccw(c-1.85,-0.775) -1.85,-0.775 ; -1.85,-0.775 ccw(c-1.75,-0.775) -1.75,-0.875 ; -1.85,-0.775 -1.85,0.775 ; -1.85,0.775 ccw(c-1.85,0.775) -1.85,0.775 ; -1.85,0.775 cw(c-1.75,0.775) -1.75,0.875 ; -1.75,-0.875 -1.75,0.875 ; -1.75,-0.875 -1.3,-0.875 ; -1.75,0.875 -1.3,0.875 ; -1.3,-0.875 ccw(c-1.3,-0.775) -1.2,-0.775 ; -1.3,-0.875 -1.3,0.875 ; -1.3,0.875 cw(c-1.3,0.775) -1.2,0.775 ; -1.2,-0.775 1.2,-0.775 ; -1.2,-0.775 -1.2,0.775 ; -1.2,0.775 1.2,0.775 ; 1.2,-0.775 ccw(c1.3,-0.775) 1.3,-0.875 ; 1.2,-0.775 1.2,0.775 ; 1.2,0.775 cw(c1.3,0.775) 1.3,0.875 ; 1.3,-0.875 1.3,0.875 ; 1.3,-0.875 1.75,-0.875 ; 1.3,-0.875 1.75,-0.875 ; 1.3,0.875 1.75,0.875 ; 1.3,0.875 1.75,0.875 ; 1.75,-0.875 ccw(c1.75,-0.775) 1.85,-0.775 ; 1.75,-0.875 1.75,0.875 ; 1.75,0.875 cw(c1.75,0.775) 1.85,0.775 ; 1.85,-0.775 ccw(c1.85,-0.775) 1.85,-0.775 ; 1.85,-0.775 1.85,0.775 ; 1.85,0.775 ccw(c1.85,0.775) 1.85,0.775 ; 0.45,0.775 ccw(c0.45,0.775) 0.45,0.775
  text ".Designator" at -3.378,-0.339 h1.5
3D body "C1206_H115_X7R.x_t": height 1.15, standoff 0, extent -1.6,-0.8 1.6,0.8

## C1206_H125_NP0 [mm] "SMD120632X16MM"
height 1.25
pads (2):
  rrect20% 1.4x1.8 smd paste-3 mask+0.05: 1(-1.4,0) 2(1.4,0)
Top Overlay:
  lines w0.2: -0.4,-1 0.4,-1 ; -0.4,1 0.4,1
Top Paste:
  drawing of 8 lines, arcs and shapes, not listed
Top Courtyard:
  lines w0.025: -2.4,-1.2 2.4,-1.2 2.4,1.2 -2.4,1.2 -2.4,-1.2
Top Assembly:
  lines w0.01: -2.095,-0.025 -2.095,0.025 ; 2.095,-0.025 2.095,0.025
  lines w0.05: -1.8,-0.825 -1.8,0.825 ; -1.7,-0.875 -1.7,0.875 ; -1.65,-0.875 -1.65,0.875 ; -1.6,-0.875 -1.6,0.875 ; -1.55,-0.875 -1.55,0.875 ; -1.5,-0.875 -1.5,0.875 ; -1.45,-0.875 -1.45,0.875 ; -1.4,-0.875 -1.4,0.875 ; -1.35,-0.875 -1.35,0.875 ; -1.25,-0.825 -1.25,0.825 ; 1.25,-0.825 1.25,0.825 ; 1.35,-0.875 1.35,0.875 ; 1.4,-0.875 1.4,0.875 ; 1.45,-0.875 1.45,0.875 ; 1.5,-0.875 1.5,0.875 ; 1.55,-0.875 1.55,0.875 ; 1.6,-0.875 1.6,0.875 ; 1.65,-0.875 1.65,0.875 ; 1.7,-0.875 1.7,0.875 ; 1.8,-0.825 1.8,0.825 ; -1.85,-0.775 ccw(c-1.75,-0.775) -1.75,-0.875 ; -1.85,-0.775 ccw(c-1.85,-0.775) -1.85,-0.775 ; -1.85,-0.775 -1.85,0.775 ; -1.85,0.775 cw(c-1.75,0.775) -1.75,0.875 ; -1.85,0.775 ccw(c-1.85,0.775) -1.85,0.775 ; -1.75,-0.875 -1.3,-0.875 ; -1.75,-0.875 -1.75,0.875 ; -1.75,0.875 -1.3,0.875 ; -1.3,-0.875 ccw(c-1.3,-0.775) -1.2,-0.775 ; -1.3,-0.875 -1.3,0.875 ; -1.3,0.875 cw(c-1.3,0.775) -1.2,0.775 ; -1.2,-0.775 -1.2,0.775 ; -1.2,-0.775 1.2,-0.775 ; -1.2,0.775 1.2,0.775 ; 1.2,-0.775 ccw(c1.3,-0.775) 1.3,-0.875 ; 1.2,-0.775 1.2,0.775 ; 1.2,0.775 cw(c1.3,0.775) 1.3,0.875 ; 1.3,-0.875 1.75,-0.875 ; 1.3,-0.875 1.75,-0.875 ; 1.3,-0.875 1.3,0.875 ; 1.3,0.875 1.75,0.875 ; 1.3,0.875 1.75,0.875 ; 1.75,-0.875 ccw(c1.75,-0.775) 1.85,-0.775 ; 1.75,-0.875 1.75,0.875 ; 1.75,0.875 cw(c1.75,0.775) 1.85,0.775 ; 1.85,-0.775 ccw(c1.85,-0.775) 1.85,-0.775 ; 1.85,-0.775 1.85,0.775 ; 1.85,0.775 ccw(c1.85,0.775) 1.85,0.775 ; 0.45,0.775 ccw(c0.45,0.775) 0.45,0.775
  text ".Designator" at -3.378,-0.339 h1.5
3D body "C1206_H125_NP0.x_t": height 1.25, standoff 0, extent -1.6,-0.8 1.6,0.8

## C1206_H125_X5R [mm] "SMD120632X16MM"
height 1.25
pads (2):
  rrect20% 1.4x1.8 smd paste-3 mask+0.05: 1(-1.4,0) 2(1.4,0)
Top Overlay:
  lines w0.2: -0.4,-1 0.4,-1 ; -0.4,1 0.4,1
Top Paste:
  drawing of 8 lines, arcs and shapes, not listed
Top Courtyard:
  lines w0.025: -2.4,-1.2 -2.4,1.2 2.4,1.2 2.4,-1.2 -2.4,-1.2
Top Assembly:
  lines w0.01: -2.095,-0.025 -2.095,0.025 ; 2.095,-0.025 2.095,0.025
  lines w0.05: -1.8,-0.825 -1.8,0.825 ; -1.7,-0.875 -1.7,0.875 ; -1.65,-0.875 -1.65,0.875 ; -1.6,-0.875 -1.6,0.875 ; -1.55,-0.875 -1.55,0.875 ; -1.5,-0.875 -1.5,0.875 ; -1.45,-0.875 -1.45,0.875 ; -1.4,-0.875 -1.4,0.875 ; -1.35,-0.875 -1.35,0.875 ; -1.25,-0.825 -1.25,0.825 ; 1.25,-0.825 1.25,0.825 ; 1.35,-0.875 1.35,0.875 ; 1.4,-0.875 1.4,0.875 ; 1.45,-0.875 1.45,0.875 ; 1.5,-0.875 1.5,0.875 ; 1.55,-0.875 1.55,0.875 ; 1.6,-0.875 1.6,0.875 ; 1.65,-0.875 1.65,0.875 ; 1.7,-0.875 1.7,0.875 ; 1.8,-0.825 1.8,0.825 ; -1.85,-0.775 ccw(c-1.85,-0.775) -1.85,-0.775 ; -1.85,-0.775 ccw(c-1.75,-0.775) -1.75,-0.875 ; -1.85,-0.775 -1.85,0.775 ; -1.85,0.775 ccw(c-1.85,0.775) -1.85,0.775 ; -1.85,0.775 cw(c-1.75,0.775) -1.75,0.875 ; -1.75,-0.875 -1.75,0.875 ; -1.75,-0.875 -1.3,-0.875 ; -1.75,0.875 -1.3,0.875 ; -1.3,-0.875 ccw(c-1.3,-0.775) -1.2,-0.775 ; -1.3,-0.875 -1.3,0.875 ; -1.3,0.875 cw(c-1.3,0.775) -1.2,0.775 ; -1.2,-0.775 1.2,-0.775 ; -1.2,-0.775 -1.2,0.775 ; -1.2,0.775 1.2,0.775 ; 1.2,-0.775 ccw(c1.3,-0.775) 1.3,-0.875 ; 1.2,-0.775 1.2,0.775 ; 1.2,0.775 cw(c1.3,0.775) 1.3,0.875 ; 1.3,-0.875 1.3,0.875 ; 1.3,-0.875 1.75,-0.875 ; 1.3,-0.875 1.75,-0.875 ; 1.3,0.875 1.75,0.875 ; 1.3,0.875 1.75,0.875 ; 1.75,-0.875 ccw(c1.75,-0.775) 1.85,-0.775 ; 1.75,-0.875 1.75,0.875 ; 1.75,0.875 cw(c1.75,0.775) 1.85,0.775 ; 1.85,-0.775 ccw(c1.85,-0.775) 1.85,-0.775 ; 1.85,-0.775 1.85,0.775 ; 1.85,0.775 ccw(c1.85,0.775) 1.85,0.775 ; 0.45,0.775 ccw(c0.45,0.775) 0.45,0.775
  text ".Designator" at -3.378,-0.339 h1.5
3D body "C1206_H125_X5R.x_t": height 1.25, standoff 0, extent -1.6,-0.8 1.6,0.8

## C1206_H125_X7R [mm] "SMD120632X16MM"
height 1.25
pads (2):
  rrect20% 1.4x1.8 smd paste-3 mask+0.05: 1(-1.4,0) 2(1.4,0)
Top Overlay:
  lines w0.2: -0.4,-1 0.4,-1 ; -0.4,1 0.4,1
Top Paste:
  drawing of 8 lines, arcs and shapes, not listed
Top Courtyard:
  lines w0.025: -2.4,-1.2 -2.4,1.2 2.4,1.2 2.4,-1.2 -2.4,-1.2
Top Assembly:
  lines w0.01: -2.095,-0.025 -2.095,0.025 ; 2.095,-0.025 2.095,0.025
  lines w0.05: -1.8,-0.825 -1.8,0.825 ; -1.7,-0.875 -1.7,0.875 ; -1.65,-0.875 -1.65,0.875 ; -1.6,-0.875 -1.6,0.875 ; -1.55,-0.875 -1.55,0.875 ; -1.5,-0.875 -1.5,0.875 ; -1.45,-0.875 -1.45,0.875 ; -1.4,-0.875 -1.4,0.875 ; -1.35,-0.875 -1.35,0.875 ; -1.25,-0.825 -1.25,0.825 ; 1.25,-0.825 1.25,0.825 ; 1.35,-0.875 1.35,0.875 ; 1.4,-0.875 1.4,0.875 ; 1.45,-0.875 1.45,0.875 ; 1.5,-0.875 1.5,0.875 ; 1.55,-0.875 1.55,0.875 ; 1.6,-0.875 1.6,0.875 ; 1.65,-0.875 1.65,0.875 ; 1.7,-0.875 1.7,0.875 ; 1.8,-0.825 1.8,0.825 ; -1.85,-0.775 ccw(c-1.85,-0.775) -1.85,-0.775 ; -1.85,-0.775 ccw(c-1.75,-0.775) -1.75,-0.875 ; -1.85,-0.775 -1.85,0.775 ; -1.85,0.775 ccw(c-1.85,0.775) -1.85,0.775 ; -1.85,0.775 cw(c-1.75,0.775) -1.75,0.875 ; -1.75,-0.875 -1.75,0.875 ; -1.75,-0.875 -1.3,-0.875 ; -1.75,0.875 -1.3,0.875 ; -1.3,-0.875 ccw(c-1.3,-0.775) -1.2,-0.775 ; -1.3,-0.875 -1.3,0.875 ; -1.3,0.875 cw(c-1.3,0.775) -1.2,0.775 ; -1.2,-0.775 1.2,-0.775 ; -1.2,-0.775 -1.2,0.775 ; -1.2,0.775 1.2,0.775 ; 1.2,-0.775 ccw(c1.3,-0.775) 1.3,-0.875 ; 1.2,-0.775 1.2,0.775 ; 1.2,0.775 cw(c1.3,0.775) 1.3,0.875 ; 1.3,-0.875 1.3,0.875 ; 1.3,-0.875 1.75,-0.875 ; 1.3,-0.875 1.75,-0.875 ; 1.3,0.875 1.75,0.875 ; 1.3,0.875 1.75,0.875 ; 1.75,-0.875 ccw(c1.75,-0.775) 1.85,-0.775 ; 1.75,-0.875 1.75,0.875 ; 1.75,0.875 cw(c1.75,0.775) 1.85,0.775 ; 1.85,-0.775 ccw(c1.85,-0.775) 1.85,-0.775 ; 1.85,-0.775 1.85,0.775 ; 1.85,0.775 ccw(c1.85,0.775) 1.85,0.775 ; 0.45,0.775 ccw(c0.45,0.775) 0.45,0.775
  text ".Designator" at -3.378,-0.339 h1.5
3D body "C1206_H125_X7R.x_t": height 1.25, standoff 0, extent -1.6,-0.8 1.6,0.8